# Altium footprint library main.PcbLib: 30 footprints (part 1 of 2)
Each footprint in its own frame and in the unit in brackets; x right, y up, seen from the top. Pads: shape width x height; smd on the part's side, far side on the other; paste and mask are expansions set on the pad; w line width, h text height; cw(c..) or ccw(c..) is an arc to the next point about the centre after c.
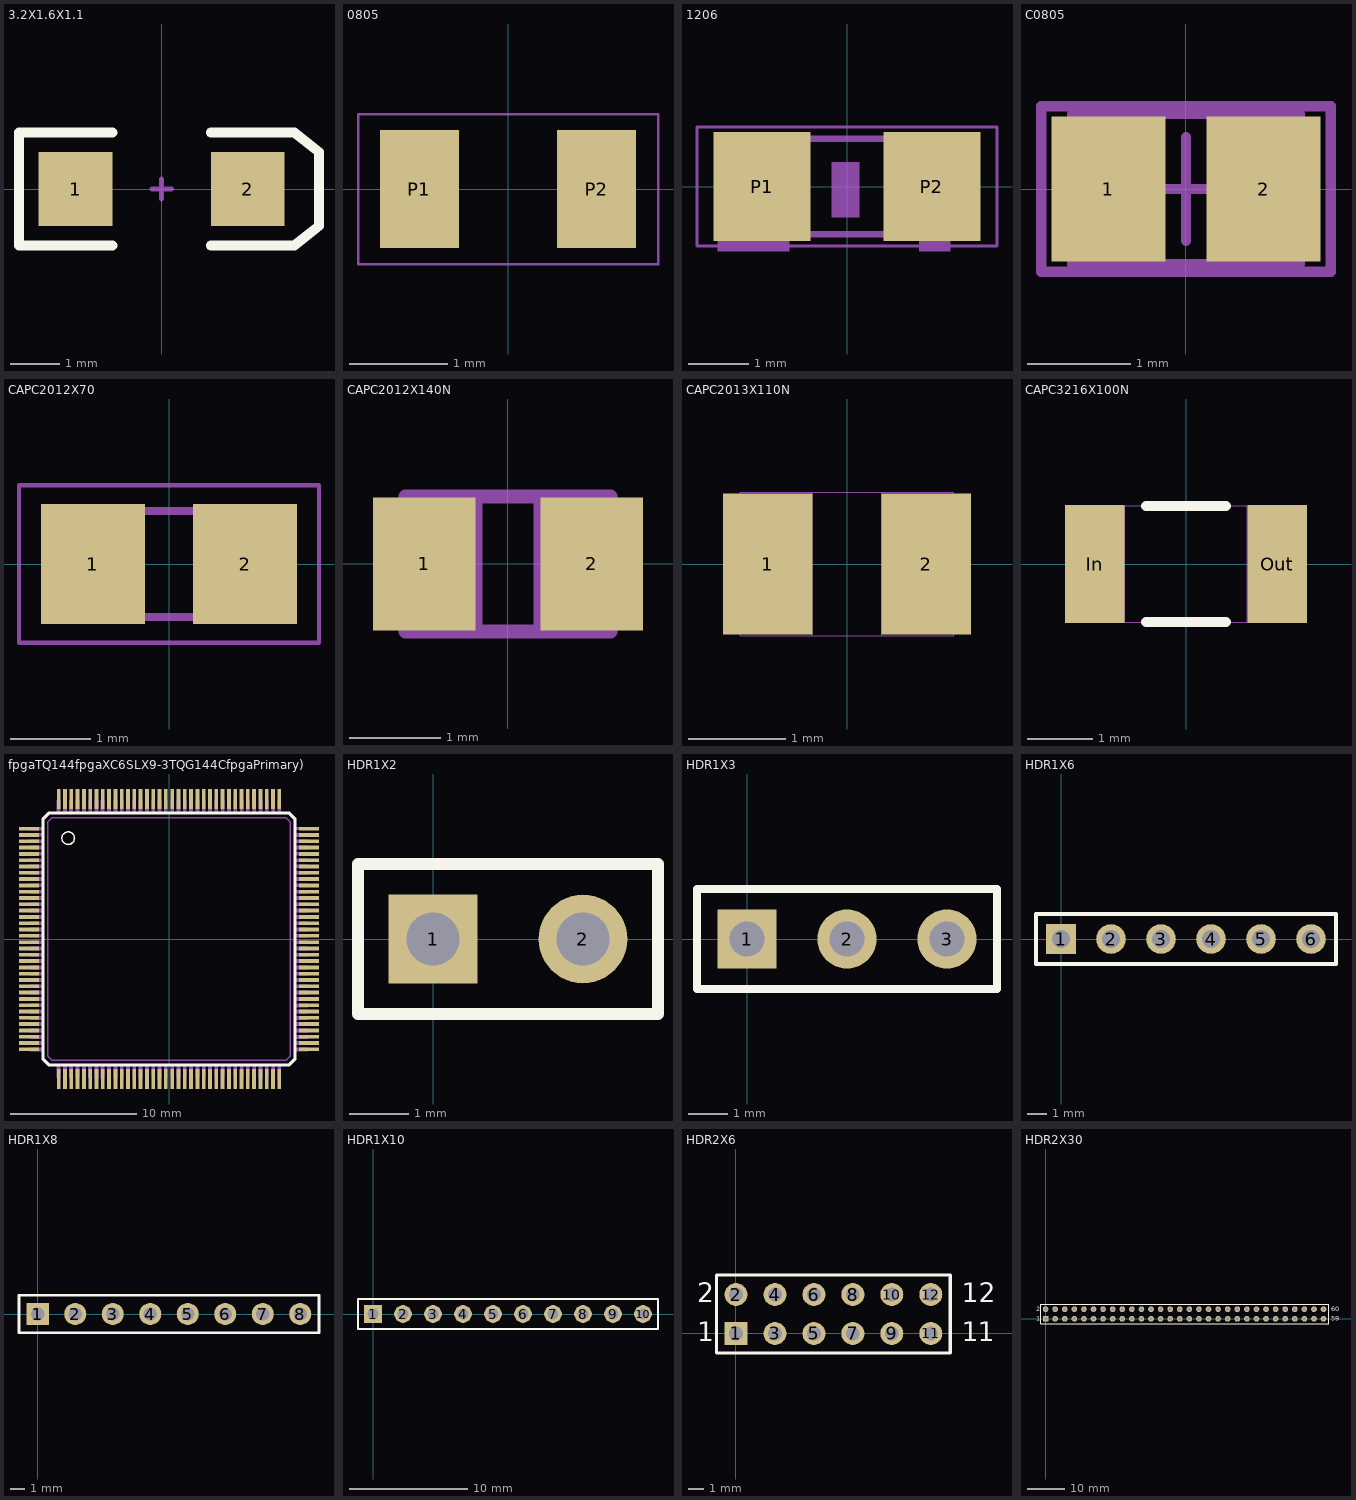
[diagram p0: the footprints below, top view; thin cyan lines are the x and y axes]

## 3.2X1.6X1.1 [mm]
pads (2):
  rect 1.5x1.5 smd: 1(-1.75,0) 2(1.75,0)
Top Overlay:
  lines w0.2: -1,-1.15 -2.9,-1.15 -2.9,1.15 -1,1.15 ; 1,-1.15 2.7,-1.15 3.2,-0.75 3.2,0.75 2.7,1.15 1,1.15
Mechanical 1:
  lines w0.1: -0.2,0 0.2,0 ; 0,-0.2 0,0.2

## 0805 [mm]
pads (2):
  rect 0.8x1.2 smd: P1(-0.9,0) P2(0.9,0)
Mechanical 1:
  lines w0.025: -1.524,-0.762 1.524,-0.762 1.524,0.762 -1.524,0.762 -1.524,-0.762

## 1206 [mm]
pads (2):
  rect 1.6x1.8 smd: P1(-1.4,0) P2(1.4,0)
Mechanical 1:
  region: -2.13,0.849 -0.952,0.849 -0.952,-1.065 -2.13,-1.065
  region: 1.193,0.851 1.702,0.851 1.702,-1.065 1.193,-1.065
  region: -0.251,0.4 0.2,0.4 0.2,-0.503 -0.251,-0.503
  lines w0.051: -2.473,-0.983 2.473,-0.983 2.473,0.983 -2.473,0.983 -2.473,-0.983
  lines w0.102: -0.965,-0.787 0.965,-0.787 ; -0.965,0.787 0.965,0.787

## C0805 [mm]
pads (2):
  rect 1.1x1.4 smd: 1(-0.75,0) 2(0.75,0)
Mechanical 13:
  lines w0.1: -1.1,-0.725 -1.1,0.725 1.1,0.725 1.1,-0.725 -1.1,-0.725
Mechanical 15:
  lines w0.1: -0.5,0 0.5,0 ; 0,-0.5 0,0.5 ; -1.4,-0.8 -1.4,0.8 1.4,0.8 1.4,-0.8 -1.4,-0.8
3D body: height 1.4, standoff 0, extent -1.1,-0.725 1.1,0.725

## CAPC2012X70 [mm]
pads (2):
  rect 1.3x1.5 smd: 1(-0.95,0) 2(0.95,0)
Mechanical 1:
  region: 0.356,0.726 1.106,0.726 1.106,-0.726 0.356,-0.726
  region: -1.095,0.726 -0.342,0.726 -0.342,-0.726 -1.095,-0.726
  lines w0.051: -1.873,-0.983 -1.873,0.983 1.873,0.983 1.873,-0.983 -1.873,-0.983
  lines w0.102: -0.381,0.66 0.381,0.66 ; -0.356,-0.66 0.381,-0.66

## CAPC2012X140N [mil]
pads (2):
  rect 44x57 smd: 1(-36,0) 2(36,0)
Mechanical 1:
  lines w6: -14,-29 -14,29 ; -14,-29 -44,-29 -44,29 -14,29 ; -14,-29 14,-29 ; -14,29 14,29 ; 14,-29 14,29 ; 14,-29 44,-29 44,29 14,29

## CAPC2013X110N [mil]
pads (2):
  rect 36x57 smd: 1(-32,0) 2(32,0)
Mechanical 1:
  lines w0: -14,-29 14,-29 ; -14,-29 -43,-29 -43,29 -14,29 ; -14,-29 -14,29 ; -14,29 14,29 ; 14,-29 43,-29 43,29 14,29 ; 14,-29 14,29

## CAPC3216X100N [mil]
pads (2):
  rect 36x71 smd: In(-55,0) Out(55,0)
Top Overlay:
  lines w6: -24,-35 24,-35 ; -24,35 24,35
Mechanical 1:
  lines w0: -37,-35 -37,35 ; -37,-35 -67,-35 -67,35 -37,35 ; -37,-35 37,-35 ; -37,35 37,35 ; 37,-35 37,35 ; 37,-35 67,-35 67,35 37,35

## fpgaTQ144fpgaXC6SLX9-3TQG144CfpgaPrimary) [mm]
pads (144):
  rect 1.6x0.3 smd: P1(-11.1,8.75) P2(-11.1,8.25) P3(-11.1,7.75) P4(-11.1,7.25) P5(-11.1,6.75) P6(-11.1,6.25) P7(-11.1,5.75) P8(-11.1,5.25) P9(-11.1,4.75) P10(-11.1,4.25) P11(-11.1,3.75) P12(-11.1,3.25) P13(-11.1,2.75) P14(-11.1,2.25) P15(-11.1,1.75) P16(-11.1,1.25) P17(-11.1,0.75) P18(-11.1,0.25) P19(-11.1,-0.25) P20(-11.1,-0.75) P21(-11.1,-1.25) P22(-11.1,-1.75) P23(-11.1,-2.25) P24(-11.1,-2.75) P25(-11.1,-3.25) P26(-11.1,-3.75) P27(-11.1,-4.25) P28(-11.1,-4.75) P29(-11.1,-5.25) P30(-11.1,-5.75) P31(-11.1,-6.25) P32(-11.1,-6.75) P33(-11.1,-7.25) P34(-11.1,-7.75) P35(-11.1,-8.25) P36(-11.1,-8.75) P73(11.1,-8.75) P74(11.1,-8.25) P75(11.1,-7.75) P76(11.1,-7.25) P77(11.1,-6.75) P78(11.1,-6.25) P79(11.1,-5.75) P80(11.1,-5.25) P81(11.1,-4.75) P82(11.1,-4.25) P83(11.1,-3.75) P84(11.1,-3.25) P85(11.1,-2.75) P86(11.1,-2.25) P87(11.1,-1.75) P88(11.1,-1.25) P89(11.1,-0.75) P90(11.1,-0.25) P91(11.1,0.25) P92(11.1,0.75) P93(11.1,1.25) P94(11.1,1.75) P95(11.1,2.25) P96(11.1,2.75) P97(11.1,3.25) P98(11.1,3.75) P99(11.1,4.25) P100(11.1,4.75) P101(11.1,5.25) P102(11.1,5.75) P103(11.1,6.25) P104(11.1,6.75) P105(11.1,7.25) P106(11.1,7.75) P107(11.1,8.25) P108(11.1,8.75)
  rect 0.3x1.6 smd: P37(-8.75,-11.1) P38(-8.25,-11.1) P39(-7.75,-11.1) P40(-7.25,-11.1) P41(-6.75,-11.1) P42(-6.25,-11.1) P43(-5.75,-11.1) P44(-5.25,-11.1) P45(-4.75,-11.1) P46(-4.25,-11.1) P47(-3.75,-11.1) P48(-3.25,-11.1) P49(-2.75,-11.1) P50(-2.25,-11.1) P51(-1.75,-11.1) P52(-1.25,-11.1) P53(-0.75,-11.1) P54(-0.25,-11.1) P55(0.25,-11.1) P56(0.75,-11.1) P57(1.25,-11.1) P58(1.75,-11.1) P59(2.25,-11.1) P60(2.75,-11.1) P61(3.25,-11.1) P62(3.75,-11.1) P63(4.25,-11.1) P64(4.75,-11.1) P65(5.25,-11.1) P66(5.75,-11.1) P67(6.25,-11.1) P68(6.75,-11.1) P69(7.25,-11.1) P70(7.75,-11.1) P71(8.25,-11.1) P72(8.75,-11.1) P109(8.75,11.1) P110(8.25,11.1) P111(7.75,11.1) P112(7.25,11.1) P113(6.75,11.1) P114(6.25,11.1) P115(5.75,11.1) P116(5.25,11.1) P117(4.75,11.1) P118(4.25,11.1) P119(3.75,11.1) P120(3.25,11.1) P121(2.75,11.1) P122(2.25,11.1) P123(1.75,11.1) P124(1.25,11.1) P125(0.75,11.1) P126(0.25,11.1) P127(-0.25,11.1) P128(-0.75,11.1) P129(-1.25,11.1) P130(-1.75,11.1) P131(-2.25,11.1) P132(-2.75,11.1) P133(-3.25,11.1) P134(-3.75,11.1) P135(-4.25,11.1) P136(-4.75,11.1) P137(-5.25,11.1) P138(-5.75,11.1) P139(-6.25,11.1) P140(-6.75,11.1) P141(-7.25,11.1) P142(-7.75,11.1) P143(-8.25,11.1) P144(-8.75,11.1)
Top Overlay:
  circle w0.127: c-8,8 r0.5
  lines w0.254: -10,-9.5 -9.5,-10 9.5,-10 10,-9.5 10,9.5 9.5,10 -9.5,10 -10,9.5 -10,-9.5
Mechanical 1:
  drawing of 152 lines, arcs and shapes, not listed

## HDR1X2 [mm]
pads (2):
  rect 1.5x1.5 hole 0.9: 1(0,0)
  round 1.5 hole 0.9: 2(2.54,0)
Top Overlay:
  lines w0.2: -1.27,-1.27 -1.27,1.27 3.81,1.27 3.81,-1.27 -1.27,-1.27

## HDR1X3 [mm]
pads (3):
  rect 1.5x1.5 hole 0.9: 1(0,0)
  round 1.5 hole 0.9: 2(2.54,0) 3(5.08,0)
Top Overlay:
  lines w0.2: -1.27,-1.27 -1.27,1.27 6.35,1.27 6.35,-1.27 -1.27,-1.27

## HDR1X6 [mm]
pads (6):
  rect 1.5x1.5 hole 0.9: 1(0,0)
  round 1.5 hole 0.9: 2(2.54,0) 3(5.08,0) 4(7.62,0) 5(10.16,0) 6(12.7,0)
Top Overlay:
  lines w0.2: -1.27,-1.27 13.97,-1.27 13.97,1.27 -1.27,1.27 -1.27,-1.27

## HDR1X8 [mm]
pads (8):
  rect 1.5x1.5 hole 0.9: 1(0,0)
  round 1.5 hole 0.9: 2(2.54,0) 3(5.08,0) 4(7.62,0) 5(10.16,0) 6(12.7,0) 7(15.24,0) 8(17.78,0)
Top Overlay:
  lines w0.2: -1.27,-1.27 -1.27,1.27 19.05,1.27 19.05,-1.27 -1.27,-1.27

## HDR1X10 [mm]
pads (10):
  rect 1.5x1.5 hole 0.9: 1(0,0)
  round 1.5 hole 0.9: 2(2.54,0) 3(5.08,0) 4(7.62,0) 5(10.16,0) 6(12.7,0) 7(15.24,0) 8(17.78,0) 9(20.32,0) 10(22.86,0)
Top Overlay:
  lines w0.2: -1.27,-1.27 24.13,-1.27 24.13,1.27 0.635,1.27 -1.27,1.27 -1.27,-1.27

## HDR2X6 [mm]
pads (12):
  rect 1.5x1.5 hole 0.9: 1(0,0)
  round 1.5 hole 0.9: 2(0,2.54) 3(2.54,0) 4(2.54,2.54) 5(5.08,0) 6(5.08,2.54) 7(7.62,0) 8(7.62,2.54) 9(10.16,0) 10(10.16,2.54) 11(12.7,0) 12(12.7,2.54)
Top Overlay:
  lines w0.2: -1.27,-1.27 -1.27,3.81 13.97,3.81 13.97,-1.27 -1.27,-1.27
  text "2" at -2.54,2.032 h1.27
  text "1" at -2.54,-0.508 h1.27
  text "1" at 14.732,-0.508 h1.27
  text "1" at 15.748,-0.508 h1.27
  text "12" at 14.732,2.032 h1.27

## HDR2X30 [mm]
pads (60):
  rect 1.5x1.5 hole 0.9: 1(0,0)
  round 1.5 hole 0.9: 2(0,2.54) 3(2.54,0) 4(2.54,2.54) 5(5.08,0) 6(5.08,2.54) 7(7.62,0) 8(7.62,2.54) 9(10.16,0) 10(10.16,2.54) 11(12.7,0) 12(12.7,2.54) 13(15.24,0) 14(15.24,2.54) 15(17.78,0) 16(17.78,2.54) 17(20.32,0) 18(20.32,2.54) 19(22.86,0) 20(22.86,2.54) 21(25.4,0) 22(25.4,2.54) 23(27.94,0) 24(27.94,2.54) 25(30.48,0) 26(30.48,2.54) 27(33.02,0) 28(33.02,2.54) 29(35.56,0) 30(35.56,2.54) 31(38.1,0) 32(38.1,2.54) 33(40.64,0) 34(40.64,2.54) 35(43.18,0) 36(43.18,2.54) 37(45.72,0) 38(45.72,2.54) 39(48.26,0) 40(48.26,2.54) 41(50.8,0) 42(50.8,2.54) 43(53.34,0) 44(53.34,2.54) 45(55.88,0) 46(55.88,2.54) 47(58.42,0) 48(58.42,2.54) 49(60.96,0) 50(60.96,2.54) 51(63.5,0) 52(63.5,2.54) 53(66.04,0) 54(66.04,2.54) 55(68.58,0) 56(68.58,2.54) 57(71.12,0) 58(71.12,2.54) 59(73.66,0) 60(73.66,2.54)
Top Overlay:
  lines w0.2: -1.27,-1.27 75.06,-1.27 75.06,3.81 -1.27,3.81 -1.27,-1.27
  text "60" at 75.692,2.032 h1.27
  text "59" at 75.692,-0.508 h1.27
  text "1" at -2.54,-0.508 h1.27
  text "2" at -2.54,2.032 h1.27
Bottom Overlay:
  text "1" at -55.88,-0.508 h1.27